# Altium footprint library ti-import.PcbLib: 50 footprints (part 4 of 4)
Each footprint in its own frame and in the unit in brackets; x right, y up, seen from the top. Pads: shape width x height; smd on the part's side, far side on the other; paste and mask are expansions set on the pad; w line width, h text height; cw(c..) or ccw(c..) is an arc to the next point about the centre after c.
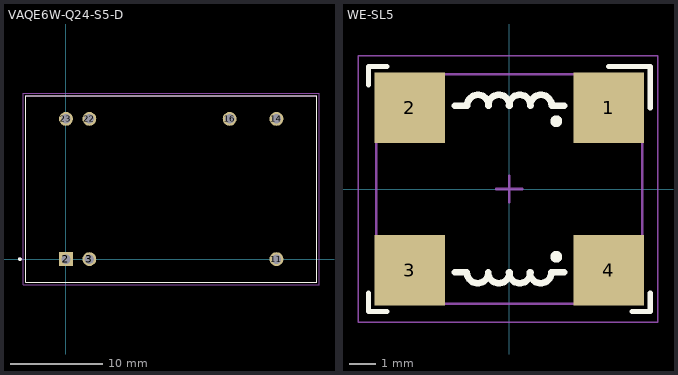
[diagram p3: the footprints below, top view; thin cyan lines are the x and y axes]

## VAQE6W-Q24-S5-D [mm] "Isolated Module DC DC Converter 1 Output 5V 1.2A 9V - 36V Input"
height 10.2
pads (7):
  rect 1.508x1.508 hole 1: 2(0,0)
  round 1.508 hole 1: 3(2.54,0) 11(22.86,0) 14(22.86,15.24) 16(17.78,15.24) 22(2.54,15.24) 23(0,15.24)
Top Overlay:
  circle w0.2: c-5,0 r0.1
  lines w0.127: -4.37,-2.53 27.23,-2.53 27.23,17.77 -4.37,17.77 -4.37,-2.53
Mechanical 4:
  circle w0.2: c-5,0 r0.1
  circle w0.2: c-5,0 r0.1
  lines w0.127: -4.37,-2.53 -4.37,17.77 ; -4.37,-2.53 27.23,-2.53 ; -4.37,-2.53 -4.37,17.77 ; -4.37,-2.53 27.23,-2.53 ; -4.37,17.77 27.23,17.77 ; -4.37,17.77 27.23,17.77 ; 27.23,-2.53 27.23,17.77 ; 27.23,-2.53 27.23,17.77
Mechanical 16:
  lines w0.05: -4.62,-2.78 27.48,-2.78 27.48,18.02 -4.62,18.02 -4.62,-2.78
3D body "CUI_VAQE6W-Q24-S5-D.step": height 10.2, standoff -4.1, extent -4.458,-2.618 27.318,17.858

## WE-SL5 [mm] "Wurth WE-SL5 Common Mode Choke"
height 6.5
pads (4):
  rect 2.7x2.7 smd: 1(3.81,3.11) 2(-3.81,3.11) 3(-3.81,-3.11) 4(3.81,-3.11)
Top Overlay:
  circle w0.254: c1.8,2.6 r0.1
  circle w0.254: c1.8,-2.6 r0.1
  lines w0.2: -5.4,-4 -5.4,-4.7 -4.7,-4.7 ; -5.4,4 -5.4,4.7 -4.7,4.7 ; 3.8,4.7 5.4,4.7 5.4,3.1 ; 4.7,-4.7 5.4,-4.7 5.4,-4
  lines w0.25: -2.1,-3.2 -1.625,-3.2 ; -2.1,3.2 -1.612,3.2 ; 1.612,-3.2 2.1,-3.2 ; 1.625,3.2 2.1,3.2
  lines w0.254: -1.625,-3.2 ccw(c-1.212,-3.2) -0.8,-3.2 ; -1.612,3.2 cw(c-1.2,3.2) -0.788,3.2 ; -0.812,-3.2 ccw(c-0.4,-3.2) 0.012,-3.2 ; -0.812,3.2 cw(c-0.4,3.2) 0.012,3.2 ; -0.012,-3.2 ccw(c0.4,-3.2) 0.812,-3.2 ; -0.012,3.2 cw(c0.4,3.2) 0.812,3.2 ; 0.788,-3.2 ccw(c1.2,-3.2) 1.612,-3.2 ; 0.8,3.2 cw(c1.212,3.2) 1.625,3.2
Mechanical 13:
  lines w0.1: -5.1,-4.4 -5.1,4.4 5.1,4.4 5.1,-4.4 -5.1,-4.4
Mechanical 15:
  lines w0.05: -5.8,-5.1 5.7,-5.1 5.7,5.1 -5.8,5.1 -5.8,-5.1
  lines w0.1: -0.5,0 0.5,0 ; 0,-0.5 0,0.5
3D body "744272222 (rev1).stp": height 5.96, standoff -0.04, extent -5,-4.35 5,4.35